# Altium footprint library PcbLib_autocar.PcbLib: 24 footprints (part 2 of 2)
Each footprint in its own frame and in the unit in brackets; x right, y up, seen from the top. Pads: shape width x height; smd on the part's side, far side on the other; paste and mask are expansions set on the pad; w line width, h text height; cw(c..) or ccw(c..) is an arc to the next point about the centre after c.
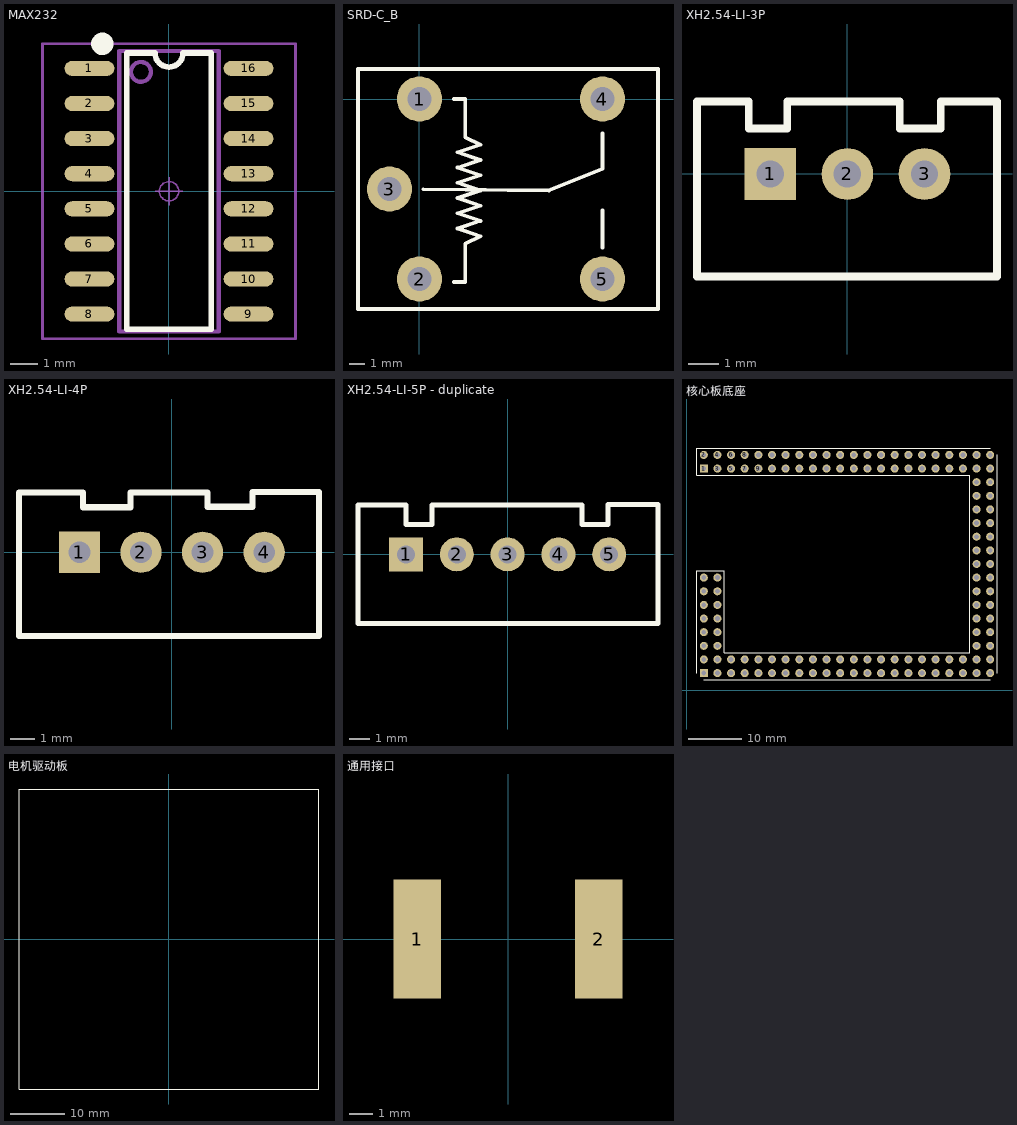
[diagram p1: the footprints below, top view; thin cyan lines are the x and y axes]

## MAX232 [mm]
pads (16):
  oval 1.8x0.55 smd: 1(-2.877,4.445) 2(-2.877,3.175) 3(-2.877,1.905) 4(-2.877,0.635) 5(-2.877,-0.635) 6(-2.877,-1.905) 7(-2.877,-3.175) 8(-2.877,-4.445) 9(2.877,-4.445) 10(2.877,-3.175) 11(2.877,-1.905) 12(2.877,-0.635) 13(2.877,0.635) 14(2.877,1.905) 15(2.877,3.175) 16(2.877,4.445)
Top Overlay:
  circle w0.5: c-2.413,5.334 r0.155
  lines w0.2: -1.524,5 -1.524,-5 1.524,-5 1.524,5
  lines w0.203: -1.524,5 -0.508,5 ccw(c0,5) 0,4.492 ccw(c0,5) 0.508,5 1.524,5
Mechanical 13:
  circle w0.15: c-1.016,4.318 r0.359
  lines w0.15: -1.8,-5.08 -1.8,5.08 1.8,5.08 1.8,-5.08 -1.8,-5.08
Mechanical 15:
  circle w0.05: c0,0 r0.35
  lines w0.05: -0.5,0 0.5,0 ; 0,-0.5 0,0.5
  lines w0.1: -4.572,-5.334 -4.572,5.334 4.572,5.334 4.572,-5.334 -4.572,-5.334
3D body "SOP16.STEP": height 1.9, standoff 0, extent -3.003,-5 3.003,5

## SRD-C_B [mm] "单刀双投"
pads (5):
  round 3 hole 1.6: 1(0,0) 2(0,-12) 3(-2,-6) 4(12.2,0) 5(12.2,-12)
Top Overlay:
  lines w0.254: 0.255,-6.02 8.636,-6.096 12.22,-4.64 ; 2.286,-12.192 3.048,-12.192 3.048,-10.668 3.048,-9.652 4.064,-9.144 2.54,-8.636 4.064,-8.128 2.54,-7.62 4.064,-7.112 2.54,-6.604 4.064,-6.096 2.54,-5.588 4.064,-5.08 2.54,-4.572 4.064,-4.064 2.54,-3.556 4.064,-3.048 3.048,-2.54 3.048,0 2.286,0 ; 12.192,-9.906 12.192,-8.636 ; 12.192,-9.144 12.192,-7.43 ; 12.192,-4.572 12.192,-2.286 ; -4.1,2 -3.4,2 ; -4.1,2 -4.1,2 ; -4.1,2 -4.1,-14 -3.9,-14 -3.6,-14 -3.4,-14 15.9,-14 15.9,-13.7 15.9,2 15.7,2 ; -3.4,2 -3.4,2 ; -3.4,2 -3.4,2 ; -3.4,2 15.7,2 ; 15.7,2 15.7,2
3D body "SRD-C_B.STEP": height 15.6, standoff -3.4, extent -3.4,-13.75 15.7,1.75

## XH2.54-LI-3P [mm] "接插件，3P"
pads (3):
  rect 1.7x1.7 hole 0.9: 1(-2.54,0)
  round 1.7 hole 0.9: 2(0,0) 3(2.54,0)
Top Overlay:
  lines w0.254: -4.953,-3.378 4.928,-3.378 4.928,2.388 3.073,2.388 3.073,1.5 1.727,1.5 1.727,2.388 -1.981,2.388 -1.981,1.5 -3.251,1.5 -3.251,2.388 -4.953,2.388 -4.953,-3.378
3D body "XH2.54-3P.STEP": height 7.03, standoff -2.47, extent -5.04,-3.3 5.04,2.4

## XH2.54-LI-4P [mm] "接插件，4P"
pads (4):
  rect 1.7x1.7 hole 0.9: 1(-3.81,0)
  round 1.7 hole 0.9: 2(-1.27,0) 3(1.27,0) 4(3.81,0)
Top Overlay:
  lines w0.254: -6.299,-3.454 -6.299,2.464 -3.658,2.464 -3.658,1.854 -1.702,1.854 -1.702,2.464 1.473,2.464 1.473,1.88 3.327,1.88 3.327,2.489 6.071,2.489 6.071,-3.454 -6.299,-3.454
3D body "XH2.54-4P.STEP": height 7.03, standoff -2.47, extent -6.31,-3.3 6.31,2.4

## XH2.54-LI-5P - duplicate [mm] "接插件，5P"
pads (5):
  rect 1.7x1.7 hole 0.9: 1(-5.08,0)
  round 1.7 hole 0.9: 2(-2.54,0) 3(0,0) 4(2.54,0) 5(5.08,0)
Top Overlay:
  lines w0.254: -3.78,2.438 -3.78,1.5 -5.08,1.5 -5.08,2.464 -7.48,2.464 -7.48,-3.454 7.52,-3.454 7.52,2.489 5.02,2.489 5.02,1.5 3.72,1.5 3.72,2.464 -3.78,2.464
3D body "XH2.54-5P.STEP": height 7.03, standoff -2.47, extent -7.58,-3.3 7.58,2.4

## 核心板底座 [mm]
pads (126):
  rect 1.5x1.5 hole 0.9: 1(3.175,41.275) 114(3.175,3.175)
  round 1.5 hole 0.9: 2(3.175,43.815) 3(5.715,41.275) 4(5.715,43.815) 5(8.255,41.275) 6(8.255,43.815) 7(10.795,41.275) 8(10.795,43.815) 9(13.335,41.275) 10(13.335,43.815) 11(15.875,41.275) 12(15.875,43.815) 13(18.415,41.275) 14(18.415,43.815) 15(20.955,41.275) 16(20.955,43.815) 17(23.495,41.275) 18(23.495,43.815) 19(26.035,41.275) 20(26.035,43.815) 21(28.575,41.275) 22(28.575,43.815) 23(31.115,41.275) 24(31.115,43.815) 25(33.655,41.275) 26(33.655,43.815) 27(36.195,41.275) 28(36.195,43.815) 29(38.735,41.275) 30(38.735,43.815) 31(41.275,41.275) 32(41.275,43.815) 33(43.815,41.275) 34(43.815,43.815) 35(46.355,41.275) 36(46.355,43.815) 37(48.895,41.275) 38(48.895,43.815) 39(51.435,41.275) 40(51.435,43.815) 41(53.975,41.275) 42(53.975,43.815) 43(56.515,41.275) 44(56.515,43.815) 45(53.975,38.735) 46(56.515,38.735) 47(53.975,36.195) 48(56.515,36.195) 49(53.975,33.655) 50(56.515,33.655) 51(53.975,31.115) 52(56.515,31.115) 53(53.975,28.575) 54(56.515,28.575) 55(53.975,26.035) 56(56.515,26.035) 57(53.975,23.495) 58(56.515,23.495) 59(53.975,20.955) 60(56.515,20.955) 61(53.975,18.415) 62(56.515,18.415) 63(53.975,15.875) 64(56.515,15.875) 65(53.975,13.335) 66(56.515,13.335) 67(53.975,10.795) 68(56.515,10.795) 69(53.975,8.255) 70(56.515,8.255) 71(56.515,5.715) 72(56.515,3.175) 73(53.975,5.715) 74(53.975,3.175) 75(51.435,5.715) 76(51.435,3.175) 77(48.895,5.715) 78(48.895,3.175) 79(46.355,5.715) 80(46.355,3.175) 81(43.815,5.715) 82(43.815,3.175) 83(41.275,5.715) 84(41.275,3.175) 85(38.735,5.715) 86(38.735,3.175) 87(36.195,5.715) 88(36.195,3.175) 89(33.655,5.715) 90(33.655,3.175) 91(31.115,5.715) 92(31.115,3.175) 93(28.575,5.715) 94(28.575,3.175) 95(26.035,5.715) 96(26.035,3.175) 97(23.495,5.715) 98(23.495,3.175) 99(20.955,5.715) 100(20.955,3.175) 101(18.415,5.715) 102(18.415,3.175) 103(15.875,5.715) 104(15.875,3.175) 105(13.335,5.715) 106(13.335,3.175) 107(10.795,5.715) 108(10.795,3.175) 109(8.255,5.715) 110(8.255,3.175) 111(5.715,5.715) 112(5.715,3.175) 113(3.175,5.715) 115(5.715,8.255) 116(3.175,8.255) 117(5.715,10.795) 118(3.175,10.795) 119(5.715,13.335) 120(3.175,13.335) 121(5.715,15.875) 122(3.175,15.875) 123(5.715,18.415) 124(3.175,18.415) 125(5.715,20.955) 126(3.175,20.955)
Top Overlay:
  lines w0.2: 1.905,3.175 1.905,6.985 1.905,22.225 6.985,22.225 6.985,6.985 52.73,6.985 ; 3.175,1.905 56.515,1.905 ; 52.705,6.985 52.705,40.005 1.905,40.005 1.905,45.085 56.515,45.085 ; 57.785,3.175 57.785,6.985 57.785,40.005 57.785,43.815

## 电机驱动板 [mm]
Top Overlay:
  lines w0.2: -27.49,-27.52 27.5,-27.52 27.5,27.52 -27.49,27.52 -27.49,-27.52

## 通用接口 [mm]
pads (2):
  rect 2x5 smd: 1(-3.81,0) 2(3.81,0)